# Altium schematic symbol library Sch lib.SchLib: 29 symbols
Pins are listed as number, name and electrical type; pins without a type are passive.

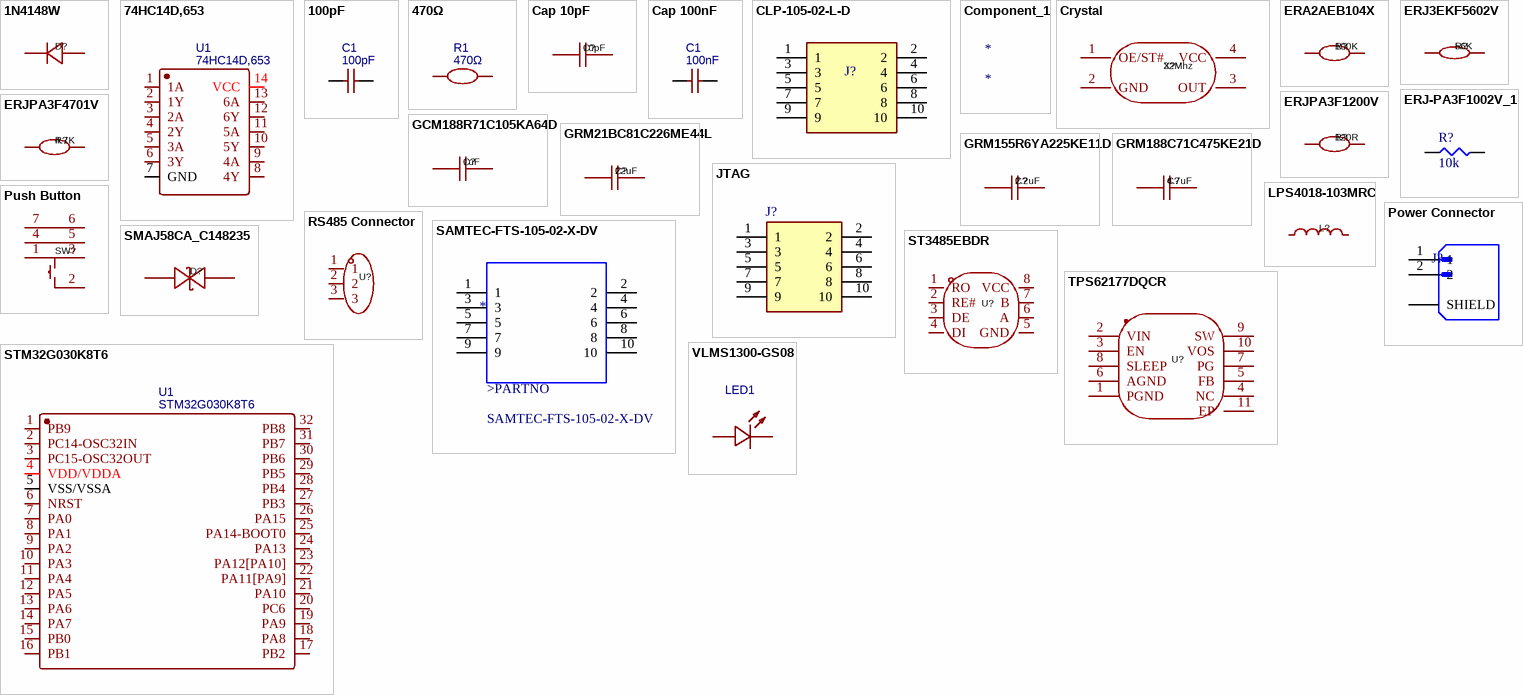
[diagram p0: symbols 1N4148W to VLMS1300-GS08]

## 1N4148W
designator D?  (value not drawn)
Manufacturer: Agertech(艾吉芯); Symbol: 1N4148W_C2840961; Add into BOM: yes; Forward Voltage (Vf@If): 1.25V@150mA; Reverse Leakage Current: 1uA@75V; Device: 1N4148W_C2840961; LCSC Part Name: 电压:100V 电流:150mA; Supplier Part: C2840961; Manufacturer Part: 1N4148W; Supplier Footprint: SOD-123W; JLCPCB Part Class: Extended Part; Datasheet: https://atta.szlcsc.com/upload/public/pdf/source/20210624/C2840961_71DFB6950E76A457E5EE196072A9BD23.pdf; Supplier: LCSC; Convert to PCB: yes; Operating Temperature: -55℃~+150℃@(Tj)
pins: 1 K, 2 A

## 74HC14D,653
designator U1
Manufacturer: Nexperia(安世); spicePre: X; Supplier: LCSC; Manufacturer Part: 74HC14D,653; Supplier Part: C5605; JLCPCB Part Class: Basic Part; spiceSymbolName: 74HC14D,653
pins: 1 1A, 2 1Y, 3 2A, 4 2Y, 5 3A, 6 3Y, 7 GND, 8 4Y, 9 4A, 10 5Y, 11 5A, 12 6Y, 13 6A, 14 VCC

## 100pF
designator C1
Cap 100pF 50V; Manufacturer: muRata(村田); Manufacturer Part: GCM1885C1H101JA16D; nameAlias: Value; Supplier: LCSC; Supplier Part: C126543; JLCPCB Part Class: Extended Part; spicePre: C; spiceSymbolName: GCM1885C1H101JA16D
pins: 1, 2

## 470Ω
designator R1
Res 470R; Manufacturer: PANASONIC(松下); Manufacturer Part: ERJPA3F4700V; nameAlias: Value; Contributor: lcsc; Supplier: LCSC; Supplier Part: C441919; JLCPCB Part Class: Extended Part; spicePre: R; spiceSymbolName: ERJPA3F4700V
pins: 1, 2

## Cap 10pF
designator C?, comment 10pF
25V 10pF NP0 ±5% 0603  Multilayer Ceramic Capacitors MLCC - SMD/SMT ROHS; Manufacturer: YAGEO(国巨); Symbol: CC0603JRNPO8BN100; Add into BOM: yes; Device: CC0603JRNPO8BN100; LCSC Part Name: 10pF ±5% 25V; Supplier Part: C1853175; Manufacturer Part: CC0603JRNPO8BN100; Supplier Footprint: 0603; JLCPCB Part Class: Extended Part; Datasheet: https://atta.szlcsc.com/upload/public/pdf/source/20210519/C1853175_08ABFC5682B471E6C773F36F7C78F8CE.pdf; Supplier: LCSC; Convert to PCB: yes; Value: 10pF; Tolerance: ±5%
footprint C0603
pins: 1, 2

## Cap 100nF
designator C1, comment 100nF
16V 100nF X7R ±10% 0603 Multilayer Ceramic Capacitors MLCC - SMD/SMT ROHS; Manufacturer: muRata(村田); Manufacturer Part: GRM188R71C104KA01D; nameAlias: Value; Supplier: LCSC; Supplier Part: C45000; JLCPCB Part Class: Extended Part; spicePre: C; spiceSymbolName: GRM188R71C104KA01D
footprint C0603
pins: 1, 2

## CLP-105-02-L-D
designator J?  (value not drawn)
1.27mm 1.27mm Double Row Tin 3.3A -55℃~+125℃ 10P Standing paste 2.29mm SMD,P=1.27mm Female Headers ROHS; MP: CLP-105-02-L-D; Package: None; Price: None; Value: *; Availability: Unavailable
pins: 1, 2, 3, 4, 5, 6, 7, 8, 9, 10

## Component_1
designator *

## Crystal
designator X?, comment 32Mhz
Manufacturer: EPSON(爱普生); Symbol: X1G004481000900; Device: X1G0044810009; Add into BOM: yes; Supply Voltage: 1.6V~3.6V; Supply Current (Max): 3mA; Frequency Stability(Full temperature range): ±100ppm; LCSC Part Name: X1G0044810009; Supplier Part: C70524; Manufacturer Part: X1G0044810009; Supplier Footprint: SMD7050-4P; JLCPCB Part Class: Extended Part; Datasheet: https://atta.szlcsc.com/upload/public/pdf/source/20161110/1478747518408.pdf; Supplier: LCSC; Convert to PCB: yes; Value: 32MHz; Operating Temperature: -40℃~+85℃
footprint OSC-SMD_4P-L7.0-W5.0-BL_SG7050
pins: 1 OE/ST#, 2 GND, 3 OUT, 4 VCC

## ERA2AEB104X
designator R?, comment 100K
Res 100K 50V; Manufacturer: PANASONIC(松下); Symbol: ERA2AEB104X; Add into BOM: yes; Value: 100kΩ; Tolerance: ±0.1%; Temperature Coefficient: ±25ppm/℃; Device: ERA2AEB104X; LCSC Part Name: 100kΩ ±0.1% 63mW 薄膜电阻; Supplier Part: C445619; Manufacturer Part: ERA2AEB104X; Supplier Footprint: 0402; JLCPCB Part Class: Extended Part; Supplier: LCSC; Convert to PCB: yes; Type: Thin Film Resistor; Operating Temperature Range: -55℃~+155℃
pins: 1, 2

## ERJ3EKF5602V
designator R?, comment 56K
Res 56K; Manufacturer: PANASONIC(松下); Symbol: ERJ3EKF5602V; Add into BOM: yes; Value: 56kΩ; Tolerance: ±1%; Temperature Coefficient: ±100ppm/℃; Device: ERJ3EKF5602V; LCSC Part Name: 56kΩ ±1% 100mW 厚膜电阻; Supplier Part: C278629; Manufacturer Part: ERJ3EKF5602V; Supplier Footprint: 0603; JLCPCB Part Class: Extended Part; Datasheet: https://atta.szlcsc.com/upload/public/pdf/source/20181114/C278629_181D62B106189050D6A2EF7256E211B4.pdf; Supplier: LCSC; Convert to PCB: yes; Type: Thick Film Resistors; Overload Voltage (Max): -; Operating Temperature Range: -55℃~+155℃
pins: 1, 2

## ERJ-PA3F1002V_1
designator R?, comment 10k
RES SMD 10K OHM 1% 1/4W 0603; Part Number: ERJ-PA3F1002V; Manufacturer: Panasonic Electronic Components; Factory Stock: 0; Unit Price (USD): 0.02372; @ qty: 1500; Minimum Quantity: 1; Power (Watts): 0.25W, 1/4W; Temperature Coefficient: ±100ppm/°C; Datasheets: https://industrial.panasonic.com/cdbs/www-data/pdf/RDA0000/AOA0000C243.pdf; Image: //media.digikey.com/Photos/Panasonic%20Photos/MFG_ERJ-P6W%20Series.jpg; Digi-Key Part Number: P10KBYCT-ND; Quantity Available: 12488; Packaging: Cut Tape (CT); Series: ERJ; Part Status: Active; Value: 10k; Tolerance: ±1%; Composition: Thick Film; Features: Automotive AEC-Q200, Pulse Withstanding; Operating Temperature: -55°C ~ 155°C; Package / Case: 0603 (1608 Metric); Supplier Device Package: 0603; Size / Dimension: 0.063" L x 0.031" W (1.60mm x 0.80mm); Height - Seated (Max): 0.022" (0.55mm); Number of Terminations: 2; Failure Rate: -
footprint SMD-0603-RES
pins: 1, 2

## ERJPA3F1200V
designator R?, comment 120R
Res 120R; Manufacturer: PANASONIC(松下); Symbol: ERJPA3F1200V; Add into BOM: yes; Value: 120Ω; Tolerance: ±1%; Power(Watts): 250mW; Temperature Coefficient: ±100ppm/℃; Device: ERJPA3F1200V; LCSC Part Name: 120Ω ±1% 250mW 厚膜电阻; Supplier Part: C543338; Manufacturer Part: ERJPA3F1200V; Supplier Footprint: 0603; JLCPCB Part Class: Extended Part; Datasheet: https://atta.szlcsc.com/upload/public/pdf/source/20200515/C543414_D3FB4A44C151AC19BA141503575FC797.pdf; Supplier: LCSC; Convert to PCB: yes; Type: Thick Film Resistors; Overload Voltage (Max): -; Operating Temperature Range: -55℃~+155℃
pins: 1, 2

## ERJPA3F4701V
designator R?, comment 4.7K
Res 4.7K; Manufacturer: PANASONIC(松下); Symbol: ERJPA3F4701V; Add into BOM: yes; Value: 4.7kΩ; Tolerance: ±1%; Power(Watts): 333mW; Temperature Coefficient: ±100ppm/℃; Device: ERJPA3F4701V; LCSC Part Name: 4.7kΩ ±1% 333mW 厚膜电阻; Supplier Part: C441924; Manufacturer Part: ERJPA3F4701V; Supplier Footprint: 0603; JLCPCB Part Class: Extended Part; Supplier: LCSC; Convert to PCB: yes; Type: Thick Film Resistors; Overload Voltage (Max): -; Operating Temperature Range: -55℃~+155℃
pins: 1, 2

## GCM188R71C105KA64D
designator C?, comment 1uF
Cap 1uF 16V; Manufacturer: muRata(村田); Symbol: GCM188R71C105KA64D; Add into BOM: yes; Tolerance: ±10%; Device: GCM188R71C105KA64D; LCSC Part Name: 1uF ±10% 16V; Supplier Part: C161212; Manufacturer Part: GCM188R71C105KA64D; Supplier Footprint: 0603; JLCPCB Part Class: Extended Part; Datasheet: https://atta.szlcsc.com/upload/public/pdf/source/20181221/C161212_C96DD77354D5551432B3B7779E4D1948.pdf; Supplier: LCSC; Convert to PCB: yes; Value: 1uF
pins: 1, 2

## GRM21BC81C226ME44L
designator C?, comment 22uF
Cap 22uF 16V; Manufacturer: muRata(村田); Symbol: GRM21BC81C226ME44L; Add into BOM: yes; Tolerance: ±20%; Device: GRM21BC81C226ME44L; LCSC Part Name: 22uF ±20% 16V; Supplier Part: C258782; Manufacturer Part: GRM21BC81C226ME44L; Supplier Footprint: 0805; JLCPCB Part Class: Extended Part; Datasheet: https://atta.szlcsc.com/upload/public/pdf/source/20200117/C258782_354729B55DBAD136BAA783E298FE5367.pdf; Supplier: LCSC; Convert to PCB: yes; Value: 22uF
pins: 1, 2

## GRM155R6YA225KE11D
designator C?, comment 2.2uF
Cap 2.2uF 35V; Manufacturer: muRata(村田); Symbol: GRM155R6YA225KE11D; Add into BOM: yes; Tolerance: ±10%; Device: GRM155R6YA225KE11D; LCSC Part Name: 2.2uF ±10% 35V; Supplier Part: C237392; Manufacturer Part: GRM155R6YA225KE11D; Supplier Footprint: 0402; JLCPCB Part Class: Extended Part; Datasheet: https://atta.szlcsc.com/upload/public/pdf/source/20200305/C490387_23319AE8C154DEB24C505E6C82A8106A.pdf; Supplier: LCSC; Convert to PCB: yes; Value: 2.2uF
pins: 1, 2

## GRM188C71C475KE21D
designator C?, comment 4.7uF
16V 4.7uF X7S ±10% 0603 Multilayer Ceramic Capacitors MLCC - SMD/SMT ROHS; Manufacturer: muRata(村田); Symbol: GRM188C71C475KE21D; Add into BOM: yes; Device: GRM188C71C475KE21D; LCSC Part Name: 4.7uF ±10% 16V; Supplier Part: C237615; Manufacturer Part: GRM188C71C475KE21D; Supplier Footprint: 0603; JLCPCB Part Class: Extended Part; Datasheet: https://atta.szlcsc.com/upload/public/pdf/source/20200305/C490387_23319AE8C154DEB24C505E6C82A8106A.pdf; Supplier: LCSC; Convert to PCB: yes; Value: 4.7uF; Tolerance: ±10%
footprint C0603
pins: 1, 2

## JTAG
designator J?, comment 20021121-00010C4LF  (value not drawn)
Headers & Wire Housings 1.27x1.27mm BTB, Hdr Unshrd, SMT, 10 Pos; Manufacturer_Name: Amphenol; Geometry.Height: 5.7mm; Mouser Part Number: 649-202112100010C4LF; Mouser Price/Stock: https://www.mouser.co.uk/ProductDetail/Amphenol-FCI/20021121-00010C4LF?qs=iIVTEDlrHA1ddfCJGH4Nhg%3D%3D; Manufacturer_Part_Number: 20021121-00010C4LF; Datasheet Link: https://cdn.amphenol-cs.com/media/wysiwyg/files/drawing/20021121.pdf
footprint 2002112100010C4LF
pins: 1, 2, 3, 4, 5, 6, 7, 8, 9, 10

## LPS4018-103MRC
designator L?  (value not drawn)
Inductor 10uH; Manufacturer: Coilcraft(线艺); Add into BOM: yes; Symbol: LPS4018-103MRC; Device: LPS4018-103MRC; LCSC Part Name: LPS4018-103MRC; Supplier Part: C6127589; Manufacturer Part: LPS4018-103MRC; Supplier Footprint: SMD,3.9x3.9mm; JLCPCB Part Class: Extended Part; Datasheet: https://atta.szlcsc.com/upload/public/pdf/source/20220705/4A26DAB81CB6B332CC15AA1D7F647266.pdf; Supplier: LCSC; Convert to PCB: yes
pins: 1, 2

## Power Connector
designator J?  (value not drawn)
Picoblade Connector, 2 Circuit Single Row, Right Angle Surface Mount SMT PCB; MF: {'manufacturer': u'Molex'}; MP: 0532610271; Availability: Unavailable; Package: None; Value: *; Price: None
footprint MOLEX_0532610271
pins: 1, 2, S1 SHIELD, S2 SHIELD

## Push Button
designator SW?, comment TSA020B3418A02  (value not drawn)
Manufacturer: BZCN(博众电气); Add into BOM: yes; Actuator Style: Round Button; Operating Force: 180gf; Switch Length: 4.5mm; Switch Width: 3.4mm; Contact Current: 50mA; Voltage Rating (DC): 12V; Symbol: TSA020B3418A02; Device: TSA020B3418A02; LCSC Part Name: 4.5*3.4*3.4mm 卧贴 轻触开关; Supplier Part: C2888897; Manufacturer Part: TSA020B3418A02; Supplier Footprint: SMD; JLCPCB Part Class: Extended Part; Datasheet: https://atta.szlcsc.com/upload/public/pdf/source/20210826/A0412DE55436A0A9154118D90A036ADB.pdf; Supplier: LCSC; Convert to PCB: yes; Mounting Style: Surface Mount; Switch Height: 3.4mm; Voltage Rating (AC): -; Mechanical Life: -
footprint SW-SMD_BZCN_YTSA020XXXX
pins: 1, 2, 3, 4, 5, 6, 7

## RS485 Connector
designator U?, comment 733-363  (value not drawn)
6A 3 Straight Needle -60℃~+100℃ 1 2.5mm Gray Plugin,P=2.5mm  Pluggable System Terminal Block ROHS; Manufacturer: WAGO(万可); Add into BOM: yes; Number of PINs Per Row: 3; Symbol: 733-363; Device: 733-363; LCSC Part Name: 2.5mm 排数:1 每排P数:3; Supplier Part: C3579942; Manufacturer Part: 733-363; Supplier Footprint: 插件,P=2.5mm; JLCPCB Part Class: Extended Part; Datasheet: https://atta.szlcsc.com/upload/public/pdf/source/20240407/CB0328B38B61B769306C444AB4F51080.pdf; Supplier: LCSC; Convert to PCB: yes; Structure: -; Pitch: 2.5mm; Color: Gray; Mounting Style: Straight Needle; Number of Pins: 3P; Number of Rows: 1; Current Rating (Max): 6A; Operating Temperature Range: -60℃~+100℃
pins: 1, 2, 3

## SAMTEC-FTS-105-02-X-DV
designator J?
Connector; MF: Samtec; MP: SAMTEC-FTS-105-02-X-DV; Value: *; Availability: Unavailable; Package: None; Price: None
pins: 1, 2, 3, 4, 5, 6, 7, 8, 9, 10
text: >PARTNO

## SMAJ58CA_C148235
designator D?, comment SMAJ58CA  (value not drawn)
Manufacturer: Littelfuse(美国力特); Symbol: SMAJ58CA_C148235; Add into BOM: yes; Reverse Stand-Off Voltage (Vrwm): 58V; Maximum Clamping Voltage: 93.6V; Peak Pulse Current (Ipp): 4.3A; Peak Pulse Power Dissipation (Ppp): 400W; Breakdown Voltage: 64.4V; Type: TVS; Device: SMAJ58CA_C148235; LCSC Part Name: SMAJ58CA; Supplier Part: C148235; Manufacturer Part: SMAJ58CA; Supplier Footprint: SMA(DO-214AC); JLCPCB Part Class: Extended Part; Datasheet: https://atta.szlcsc.com/upload/public/pdf/source/20190402/C374025_5ACE77BC72947DF13CF0CBC7F8B57228.pdf; Supplier: LCSC; Convert to PCB: yes
pins: 1, 2

## ST3485EBDR
designator U?  (value not drawn)
Manufacturer: ST(意法半导体); Add into BOM: yes; Types: transceiver; Supply Voltage: 3V~3.6V; Data Rate: 15Mbps; Driver/receiver: 1/1; Node Number: 64; ESD Protect: ±12kV; Whether the isolation: NO; Symbol: ST3485EBDR; Device: ST3485EBDR; LCSC Part Name: 3.3V供电 15Mbps 带静电保护收发器; Supplier Part: C75809; Manufacturer Part: ST3485EBDR; Supplier Footprint: SO-8; JLCPCB Part Class: Extended Part; Datasheet: https://atta.szlcsc.com/upload/public/pdf/source/20181012/C75809_EC9EE9FC1B4AC7950854237FAEE73CA1.pdf; Supplier: LCSC; Convert to PCB: yes; Operating Temperature: -40℃~+85℃
pins: 1 RO, 2 RE#, 3 DE, 4 DI, 5 GND, 6 A, 7 B, 8 VCC

## STM32G030K8T6
designator U1
Manufacturer: ST(意法半导体); Contributor: LCSC; Supplier: LCSC; Supplier Part: C431631; Manufacturer Part: STM32G030K8T6; JLCPCB Part Class: Extended Part; spicePre: U; spiceSymbolName: STM32G030K8T6
pins: 1 PB9, 2 PC14-OSC32IN, 3 PC15-OSC32OUT, 4 VDD/VDDA, 5 VSS/VSSA, 6 NRST, 7 PA0, 8 PA1, 9 PA2, 10 PA3, 11 PA4, 12 PA5, 13 PA6, 14 PA7, 15 PB0, 16 PB1, 17 PB2, 18 PA8, 19 PA9, 20 PC6, 21 PA10, 22 PA11[PA9], 23 PA12[PA10], 24 PA13, 25 PA14-BOOT0, 26 PA15, 27 PB3, 28 PB4, 29 PB5, 30 PB6, 31 PB7, 32 PB8

## TPS62177DQCR
designator U?  (value not drawn)
Manufacturer: TI(德州仪器); Add into BOM: yes; Function: Step-down type; Switch tube (built-in/external): 内置; Symbol: TPS62177DQCR; Device: TPS62177DQCR; LCSC Part Name: TPS62177DQCR; Supplier Part: C91241; Manufacturer Part: TPS62177DQCR; Supplier Footprint: WSON-10-EP(2x3); JLCPCB Part Class: Extended Part; Datasheet: https://www.ti.com/cn/lit/gpn/tps62177; Supplier: LCSC; Convert to PCB: yes; Input Voltage: -; Output Current (Max): -; Switching Frequency: -; Synchronous Rectification: -; Number of Outputs: -; Topology: -
pins: 1 PGND, 2 VIN, 3 EN, 4 NC, 5 FB, 6 AGND, 7 PG, 8 SLEEP, 9 SW, 10 VOS, 11 EP

## VLMS1300-GS08
designator LED1  (value not drawn)
Led; Manufacturer: VISHAY(威世); Contributor: LCSC; Supplier: LCSC; Supplier Part: C83242; Manufacturer Part: VLMS1300-GS08; JLCPCB Part Class: Extended Part; spicePre: L; spiceSymbolName: VLMS1300-GS08
footprint LED0603-R-RD_RED
pins: 1 A, 2 C